# Altium schematic symbol library tps61378qwrterq1.SchLib: 1 symbol
Pins are listed as number, name and electrical type; pins without a type are passive.

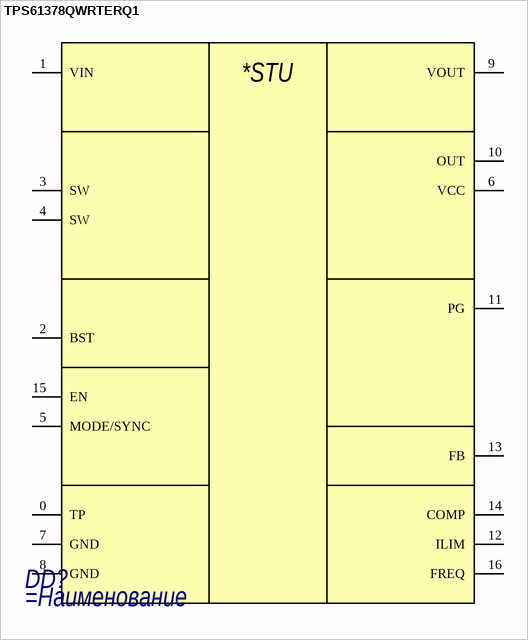
[diagram p0: symbol TPS61378QWRTERQ1]

## TPS61378QWRTERQ1
designator DD?
=Описание
pins: 0 TP, 1 VIN, 2 BST, 3 SW, 4 SW, 5 MODE/SYNC, 6 VCC, 7 GND, 8 GND, 9 VOUT, 10 OUT, 11 PG, 12 ILIM, 13 FB, 14 COMP, 15 EN, 16 FREQ
text: *STU